# Altium footprint library BJT.PcbLib: 8 footprints
Each footprint in its own frame and in the unit in brackets; x right, y up, seen from the top. Pads: shape width x height; smd on the part's side, far side on the other; paste and mask are expansions set on the pad; w line width, h text height; cw(c..) or ccw(c..) is an arc to the next point about the centre after c.
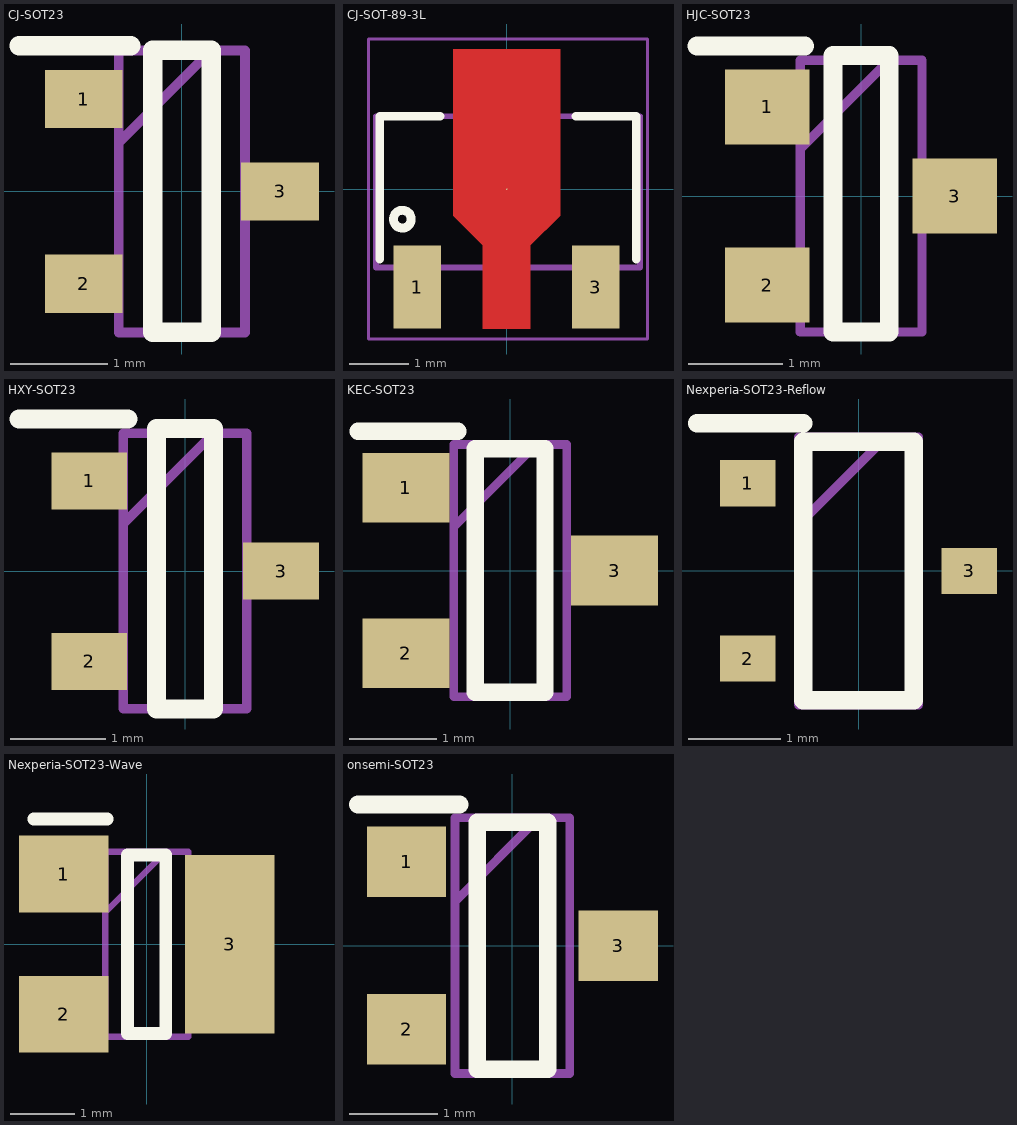
[diagram p0: the footprints below, top view; thin cyan lines are the x and y axes]

## CJ-SOT23 [mm] "CJ(江苏长电/长晶) SOT23封装 推荐焊盘"
pads (3):
  rect 0.8x0.6 smd: 1(-1.01,0.95) 2(-1.01,-0.95) 3(1.01,0)
Top Overlay:
  lines w0.2: -1.675,1.5 -0.525,1.5 ; -0.3,-1.45 -0.3,1.45 0.3,1.45 0.3,-1.45 -0.3,-1.45
Mechanical 15:
  lines w0.1: -0.65,0.5 0.3,1.45 ; -0.65,-1.45 -0.65,1.45 0.65,1.45 0.65,-1.45 -0.65,-1.45
3D body "SOT-23.stp": height 1.2, standoff 0, extent -1.2,-1.45 1.2,1.45

## CJ-SOT-89-3L [mm] "CJ(江苏长电/长晶) SOT-89-3L封装 推荐焊盘"
pads (3):
  rect 0.8x1.4 smd: 1(-1.499,-1.651) 3(1.501,-1.651)
  round 0.025 smd: 2(0.001,-0.001)
Top Layer:
  region: -0.899,-0.451 -0.399,-0.951 -0.399,-2.351 0.401,-2.351 0.401,-0.951 0.901,-0.451 0.901,2.349 -0.899,2.349
Top Overlay:
  circle w0.15: c-1.753,-0.508 r0.15
  lines w0.15: -2.134,-1.175 -2.134,1.225 -1.118,1.225 ; 1.168,1.225 2.184,1.225 2.184,-1.175
Mechanical 13:
  lines w0.1: -2.2,-1.322 -2.2,1.225 2.25,1.225 2.25,-1.322 -2.2,-1.322
Mechanical 15:
  lines w0.05: -2.325,-2.525 2.375,-2.525 2.375,2.525 -2.325,2.525 -2.325,-2.525
3D body "SOT89-3.STEP": height 1.54, standoff 0, extent -2.225,-2.25 2.275,2

## HJC-SOT23 [mm] "宏嘉诚 SOT23封装 推荐焊盘"
pads (3):
  rect 0.9x0.8 smd: 1(-1,0.95) 2(-1,-0.95) 3(1,0)
Top Overlay:
  lines w0.2: -1.75,1.6 -0.6,1.6 ; -0.3,-1.45 0.3,-1.45 0.3,1.5 -0.3,1.5 -0.3,-1.45
Mechanical 15:
  lines w0.1: -0.65,0.5 0.3,1.45 ; -0.65,-1.45 0.65,-1.45 0.65,1.45 -0.65,1.45 -0.65,-1.45
3D body "SOT-23.stp": height 1.2, standoff 0, extent -1.2,-1.45 1.2,1.45

## HXY-SOT23 [mm] "HXY MOSFET SOT23封装 推荐焊盘"
pads (3):
  rect 0.8x0.6 smd: 1(-1.01,0.95) 2(-1.01,-0.95) 3(1.01,0)
Top Overlay:
  lines w0.2: -1.75,1.6 -0.6,1.6 ; -0.3,-1.45 0.3,-1.45 0.3,1.5 -0.3,1.5 -0.3,-1.45
Mechanical 15:
  lines w0.1: -0.65,0.5 0.3,1.45 ; -0.65,-1.45 0.65,-1.45 0.65,1.45 -0.65,1.45 -0.65,-1.45
3D body "SOT-23.stp": height 1.2, standoff 0, extent -1.2,-1.45 1.2,1.45

## KEC-SOT23 [mm] "KEC SOT23封装 推荐焊盘"
pads (3):
  rect 1x0.8 smd: 1(-1.2,0.95) 2(-1.2,-0.95) 3(1.2,0)
Top Overlay:
  lines w0.2: -1.75,1.6 -0.6,1.6 ; -0.4,-1.4 -0.4,1.4 0.4,1.4 0.4,-1.4 -0.4,-1.4
Mechanical 15:
  lines w0.1: -0.65,0.5 0.3,1.45 ; -0.65,-1.45 -0.65,1.45 0.65,1.45 0.65,-1.45 -0.65,-1.45
3D body "SOT-23.stp": height 1.2, standoff 0, extent -1.2,-1.45 1.2,1.45

## Nexperia-SOT23-Reflow [mm] "Nexperia SOT23封装 回流焊 推荐焊盘"
pads (3):
  rect 0.6x0.5 smd mask+0.1: 1(-1.2,0.95) 2(-1.2,-0.95) 3(1.2,0)
Top Overlay:
  lines w0.2: -1.75,1.6 -0.6,1.6 ; -0.6,-1.4 -0.6,1.4 0.6,1.4 0.6,-1.4 -0.6,-1.4
Mechanical 15:
  lines w0.1: -0.65,0.5 0.3,1.45 ; -0.65,-1.45 -0.65,1.45 0.65,1.45 0.65,-1.45 -0.65,-1.45
3D body "SOT-23.stp": height 1.2, standoff 0, extent -1.2,-1.45 1.2,1.45

## Nexperia-SOT23-Wave [mm] "Nexperia SOT23封装 波峰焊 推荐焊盘"
pads (3):
  rect 1.4x1.2 smd: 1(-1.3,1.1) 2(-1.3,-1.1)
  rect 1.4x2.8 smd: 3(1.3,0)
Top Overlay:
  lines w0.2: -1.768,1.964 -0.618,1.964 ; -0.3,-1.4 -0.3,1.4 0.3,1.4 0.3,-1.4 -0.3,-1.4
Mechanical 15:
  lines w0.1: -0.65,0.5 0.3,1.45 ; -0.65,-1.45 -0.65,1.45 0.65,1.45 0.65,-1.45 -0.65,-1.45
3D body "SOT-23.stp": height 1.2, standoff 0, extent -1.2,-1.45 1.2,1.45

## onsemi-SOT23 [mm] "onsemi SOT23封装 推荐焊盘"
pads (3):
  rect 0.9x0.8 smd: 1(-1.2,0.95) 2(-1.2,-0.95) 3(1.2,0)
Top Overlay:
  lines w0.2: -1.75,1.6 -0.6,1.6 ; -0.4,-1.4 -0.4,1.4 0.4,1.4 0.4,-1.4 -0.4,-1.4
Mechanical 15:
  lines w0.1: -0.65,0.5 0.3,1.45 ; -0.65,-1.45 -0.65,1.45 0.65,1.45 0.65,-1.45 -0.65,-1.45
3D body "SOT-23.stp": height 1.2, standoff 0, extent -1.2,-1.45 1.2,1.45